# Altium footprint library AC0402FR-075K1L.PcbLib: 1 footprints
Each footprint in its own frame and in the unit in brackets; x right, y up, seen from the top. Pads: shape width x height; smd on the part's side, far side on the other; paste and mask are expansions set on the pad; w line width, h text height; cw(c..) or ccw(c..) is an arc to the next point about the centre after c.
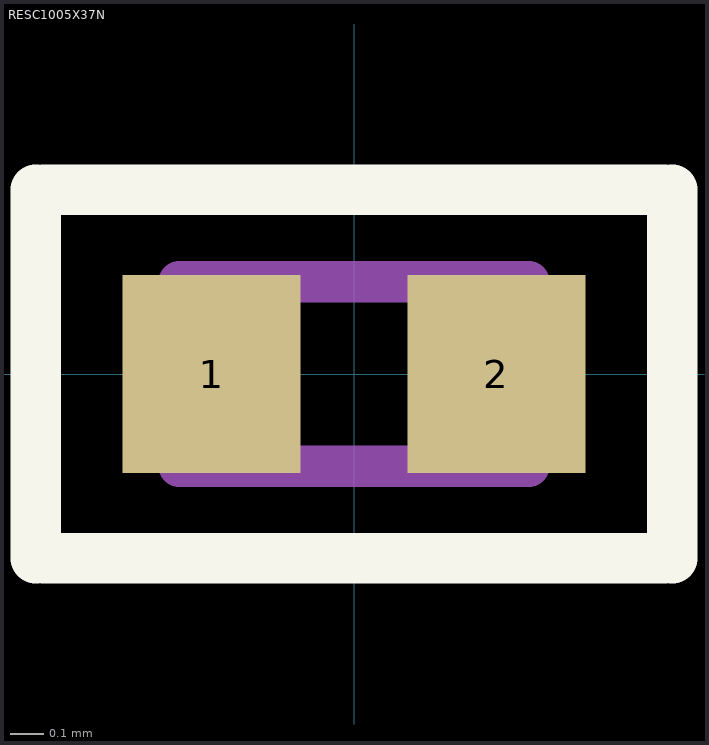
[diagram p0: the footprint, top view; thin cyan lines are the x and y axes]

## RESC1005X37N [mm]
pads (2):
  rect 0.54x0.6 smd: 1(-0.432,0) 2(0.432,0)
Top Overlay:
  lines w0.152: -0.965,-0.559 -0.965,0.559 ; -0.94,-0.559 0.94,-0.559 ; -0.94,0.559 0.94,0.559 ; 0.965,-0.559 0.965,0.559
Top 3D Body:
  lines w0.127: -0.53,-0.28 -0.53,0.28 0.53,0.28 0.53,-0.28 -0.53,-0.28
Top Courtyard:
  lines w0.05: -0.95,-0.55 0.95,-0.55 0.95,0.55 -0.95,0.55 -0.95,-0.55
3D body "step_temp.STEP": height 0.37, standoff 0, extent -0.5,-0.25 0.5,0.25